# Altium footprint library PCB - LEADLESS - QFN - TI VQFN32 RSM.PcbLib: 1 footprints
Each footprint in its own frame and in the unit in brackets; x right, y up, seen from the top. Pads: shape width x height; smd on the part's side, far side on the other; paste and mask are expansions set on the pad; w line width, h text height; cw(c..) or ccw(c..) is an arc to the next point about the centre after c.
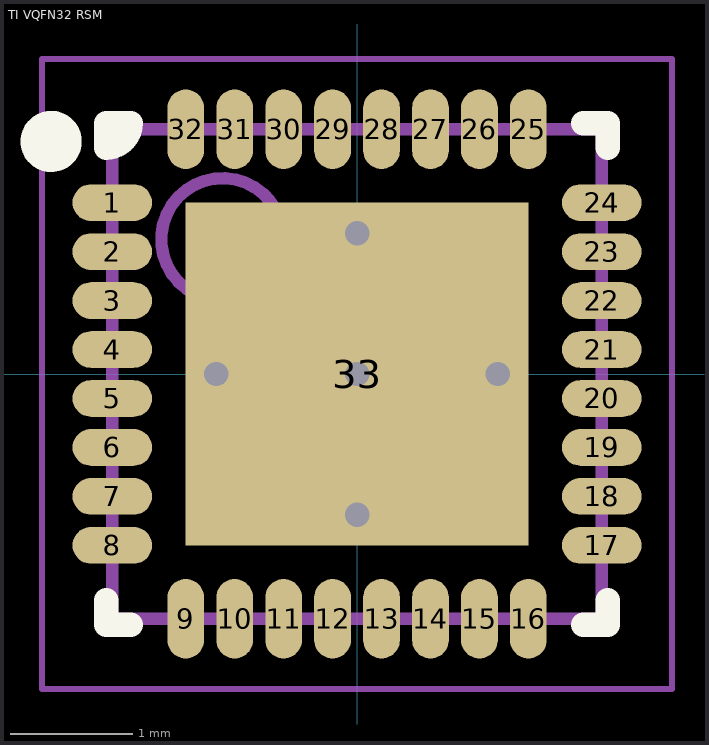
[diagram p0: the footprint, top view; thin cyan lines are the x and y axes]

## TI VQFN32 RSM [mm] "VQFN32 Package, 0.4mm Pitch, 4.00x4.00 Body, IPC Medium Density"
height 1
pads (33):
  oval 0.65x0.3 smd: 1(-2,1.4) 2(-2,1) 3(-2,0.6) 4(-2,0.2) 5(-2,-0.2) 6(-2,-0.6) 7(-2,-1) 8(-2,-1.4) 17(2,-1.4) 18(2,-1) 19(2,-0.6) 20(2,-0.2) 21(2,0.2) 22(2,0.6) 23(2,1) 24(2,1.4)
  oval 0.3x0.65 smd: 9(-1.4,-2) 10(-1,-2) 11(-0.6,-2) 12(-0.2,-2) 13(0.2,-2) 14(0.6,-2) 15(1,-2) 16(1.4,-2) 25(1.4,2) 26(1,2) 27(0.6,2) 28(0.2,2) 29(-0.2,2) 30(-0.6,2) 31(-1,2) 32(-1.4,2)
  rect 2.8x2.8 smd: 33(0,0)
via 0,-1.15 diameter 0.5 hole 0.2
via 1.15,0 diameter 0.5 hole 0.2
via -1.15,0 diameter 0.5 hole 0.2
via 0,1.15 diameter 0.5 hole 0.2
via 0,0 diameter 0.5 hole 0.2
Top Overlay:
  circle w0.25: c-2.5,1.9 r0.125
  lines w0.2: -2.05,-1.85 -2.05,-2.05 -1.85,-2.05 ; 1.85,-2.05 2.05,-2.05 2.05,-1.85 ; 1.85,2.05 2.05,2.05 2.05,1.85 ; -2.05,1.85 ccw(c-2.05,2.05) -1.85,2.05 -2.05,2.05 -2.05,1.85
Mechanical 13:
  circle w0.1: c-1.1,1.1 r0.5
  lines w0.1: -2,-2 2,-2 2,2 -2,2 -2,-2
Mechanical 15 (Mech15):
  lines w0.05: -2.575,-2.575 2.575,-2.575 2.575,2.575 -2.575,2.575 -2.575,-2.575
  lines w0.1: -0.5,0 0.5,0 ; 0,-0.5 0,0.5
3D body: height 1, standoff 0.05, extent -2,-2 2,2